# EAGLE library part Z8001 (library oldchips)
16-bit CPU
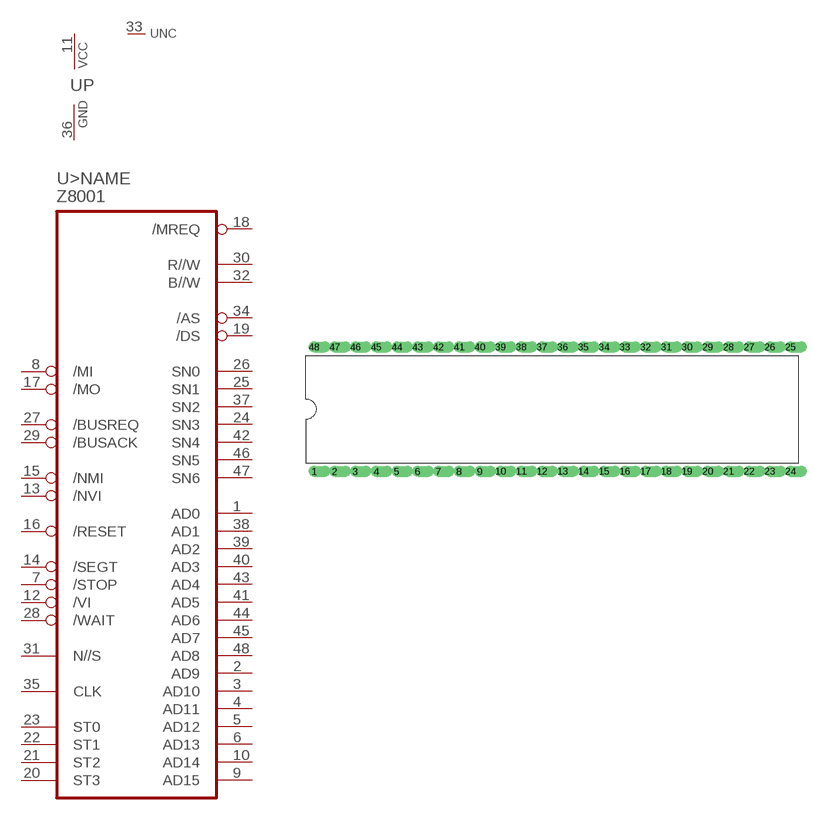
[diagram p9: symbol with the pads of DIL48; footprint DIL48]

Designator prefix U; gates >NAME=Z8001 P=PWRN NC=NC

## Z8001P  [DIL48]
1  >NAME:AD0
2  >NAME:AD9
3  >NAME:AD10
4  >NAME:AD11
5  >NAME:AD12
6  >NAME:AD13
7  >NAME:/STOP  in
8  >NAME:/MI  in
9  >NAME:AD15
10  >NAME:AD14
11  P:VCC  pwr
12  >NAME:/VI  in
13  >NAME:/NVI  in
14  >NAME:/SEGT  in
15  >NAME:/NMI  in
16  >NAME:/RESET  in
17  >NAME:/MO  out
18  >NAME:/MREQ  out
19  >NAME:/DS  out
20  >NAME:ST3  out
21  >NAME:ST2  out
22  >NAME:ST1  out
23  >NAME:ST0  out
24  >NAME:SN3  out
25  >NAME:SN1  out
26  >NAME:SN0  out
27  >NAME:/BUSREQ  in
28  >NAME:/WAIT  in
29  >NAME:/BUSACK  out
30  >NAME:R//W  out
31  >NAME:N//S  out
32  >NAME:B//W  out
33  NC:NC  nc
34  >NAME:/AS  out
35  >NAME:CLK  in
36  P:GND  pwr
37  >NAME:SN2  out
38  >NAME:AD1
39  >NAME:AD2
40  >NAME:AD3
41  >NAME:AD5
42  >NAME:SN4  out
43  >NAME:AD4
44  >NAME:AD6
45  >NAME:AD7
46  >NAME:SN5  out
47  >NAME:SN6  out
48  >NAME:AD8

## Footprint DIL48 (pad centres in mm)
Dual In Line
drill 0.813 offset: 1 -29.21,-7.62; 2 -26.67,-7.62; 3 -24.13,-7.62; 4 -21.59,-7.62; 5 -19.05,-7.62; 6 -16.51,-7.62; 7 -13.97,-7.62; 8 -11.43,-7.62; 9 -8.89,-7.62; 10 -6.35,-7.62; 11 -3.81,-7.62; 12 -1.27,-7.62; 13 1.27,-7.62; 14 3.81,-7.62; 15 6.35,-7.62; 16 8.89,-7.62; 17 11.43,-7.62; 18 13.97,-7.62; 19 16.51,-7.62; 20 19.05,-7.62; 21 21.59,-7.62; 22 24.13,-7.62; 23 26.67,-7.62; 24 29.21,-7.62; 25 29.21,7.62; 26 26.67,7.62; 27 24.13,7.62; 28 21.59,7.62; 29 19.05,7.62; 30 16.51,7.62; 31 13.97,7.62; 32 11.43,7.62; 33 8.89,7.62; 34 6.35,7.62; 35 3.81,7.62; 36 1.27,7.62; 37 -1.27,7.62; 38 -3.81,7.62; 39 -6.35,7.62; 40 -8.89,7.62; 41 -11.43,7.62; 42 -13.97,7.62; 43 -16.51,7.62; 44 -19.05,7.62; 45 -21.59,7.62; 46 -24.13,7.62; 47 -26.67,7.62; 48 -29.21,7.62